# Altium schematic symbol library SG5032CCN_16.000000M-HJGA3.SchLib: 1 symbol
Pins are listed as number, name and electrical type; pins without a type are passive.

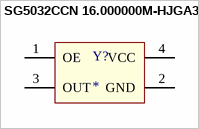
[diagram p0: symbol SG5032CCN 16.000000M-HJGA3]

## SG5032CCN 16.000000M-HJGA3
designator Y?
XTAL OSC XO 16.0000MHZ CMOS SMD / Manufacturer PN: SG5032CCN 16.000000M-HJGA3
footprint SG5032CCN_16.000000M-HJGA3
pins: 1 OE, 2 GND, 3 OUT, 4 VCC